# EAGLE library part CMPWR025M (library calmicro)
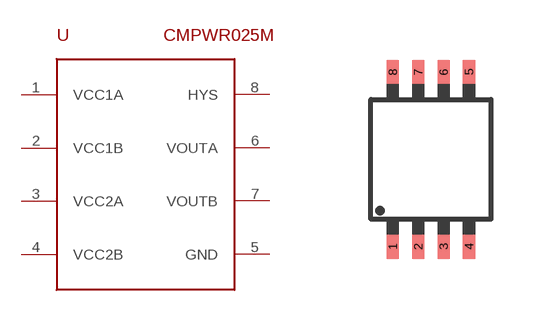
[diagram p0: symbol with the pads of MSOP8; footprint MSOP8]

Designator prefix -

## CMPWR025M  [MSOP8]
1  VCC1A
2  VCC1B
3  VCC2A
4  VCC2B
5  GND
6  VOUTA
7  VOUTB
8  HYS

## Footprint MSOP8 (pad centres in mm)
smd 0.305 x 0.61: 1 -0.953,-2.184; 2 -0.318,-2.184; 3 0.318,-2.184; 4 0.953,-2.184; 5 0.953,2.184; 6 0.318,2.184; 7 -0.318,2.184; 8 -0.953,2.184